# Altium schematic symbol library DA2034-ALD.SchLib: 1 symbol
Pins are listed as number, name and electrical type; pins without a type are passive.

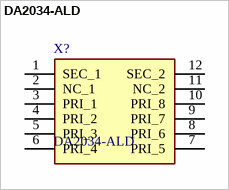
[diagram p0: symbol DA2034-ALD]

## DA2034-ALD
designator X?
Audio Transformers / Signal Transformers DA2032 Cap Chrgr For Linear LT3750/51; Manufacturer_Name: COILCRAFT; Geometry.Height: 11.43mm; Mouser Part Number: 994-DA2034-ALD; Mouser Price/Stock: https://www.mouser.co.uk/ProductDetail/Coilcraft/DA2034-ALD?qs=ZYnrCdKdyedtN304hL7iMg%3D%3D; Manufacturer_Part_Number: DA2034-ALD; Datasheet Link: https://www.coilcraft.com/pdfs/da2032.pdf
footprint SOP300P3000X1143-12N
pins: 1 SEC_1, 2 NC_1, 3 PRI_1, 4 PRI_2, 5 PRI_3, 6 PRI_4, 7 PRI_5, 8 PRI_6, 9 PRI_7, 10 PRI_8, 11 NC_2, 12 SEC_2